# Altium schematic symbol library XTAL,16MHz,10ppm,9pF,SMD.Schlib: 1 symbol
Pins are listed as number, name and electrical type; pins without a type are passive.

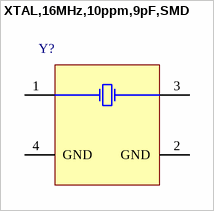
[diagram p0: symbol XTAL,16MHz,10ppm,9pF,SMD]

## XTAL,16MHz,10ppm,9pF,SMD
designator Y?
pins: 1 OSC1, 2 GND, 3 GND, 4 GND